# EAGLE library part 8PIN (library FaBo-Breakout)
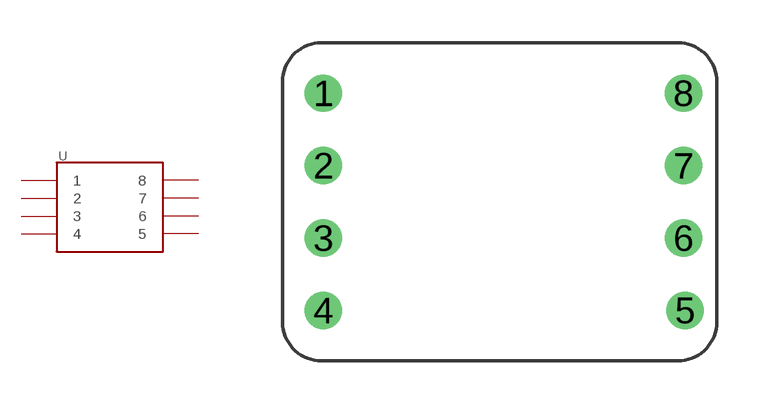
[diagram p3: symbol with the pads of 8PIN; footprint 8PIN]

Designator prefix -

## 8PIN  [8PIN]
1  1
2  2
3  3
4  4
5  5
6  6
7  7
8  8

## Footprint 8PIN (pad centres in mm)
drill 0.8: 1 -7.46,3.81; 2 -7.46,1.27; 3 -7.46,-1.27; 4 -7.46,-3.81; 5 5.24,-3.81; 6 5.18,-1.27; 7 5.18,1.27; 8 5.18,3.81